# Altium footprint library OBC Development Board.PcbLib: 8 footprints
Each footprint in its own frame and in the unit in brackets; x right, y up, seen from the top. Pads: shape width x height; smd on the part's side, far side on the other; paste and mask are expansions set on the pad; w line width, h text height; cw(c..) or ccw(c..) is an arc to the next point about the centre after c.
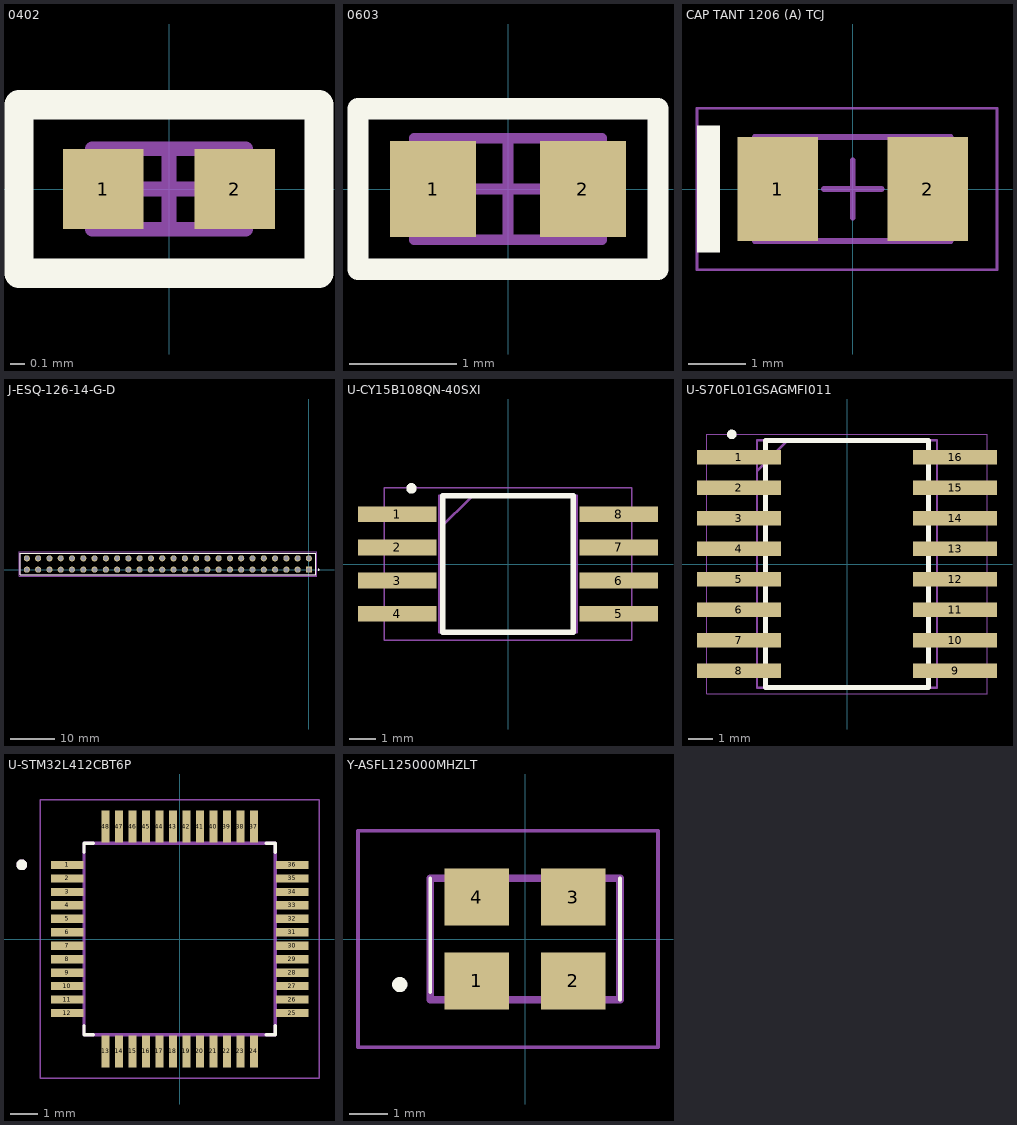
[diagram p0: the footprints below, top view; thin cyan lines are the x and y axes]

## 0402 [mm] "Chip Resistor, 2-Leads, Body 1,00x0,50mm, IPC Medium Density"
height 0.4
pads (2):
  rect 0.55x0.55 smd: 1(-0.45,0) 2(0.45,0)
Top Overlay:
  lines w0.2: -1.025,-0.575 -1.025,0.575 1.025,0.575 1.025,-0.575 -1.025,-0.575
Mechanical 13:
  lines w0.1: -0.525,-0.275 0.525,-0.275 0.525,0.275 -0.525,0.275 -0.525,-0.275
  text ".Designator" at 0,0 h1
Mechanical 15:
  lines w0.05: -1.025,-0.575 1.025,-0.575 1.025,0.575 -1.025,0.575 -1.025,-0.575
  lines w0.1: -0.275,0 0.275,0 ; 0,-0.275 0,0.275
3D body: height 0.4, standoff 0, extent 0.275,-0.275 0.525,0.275
3D body: height 0.4, standoff 0, extent -0.525,-0.275 -0.275,0.275
3D body: height 0.4, standoff 0, extent -0.275,-0.275 0.275,0.275

## 0603 [mm]
pads (2):
  rect 0.8x0.9 smd: 1(-0.7,0) 2(0.7,0)
Top Overlay:
  lines w0.2: -1.4,-0.75 -1.4,0.75 1.4,0.75 1.4,-0.75 -1.4,-0.75
Mechanical 13:
  lines w0.1: -0.875,-0.475 -0.875,0.475 0.875,0.475 0.875,-0.475 -0.875,-0.475
  text ".Designator" at 0,0 h1
Mechanical 15:
  lines w0.1: -0.475,0 0.475,0 ; 0,-0.475 0,0.475 ; -1.4,-0.75 1.4,-0.75 1.4,0.75 -1.4,0.75 -1.4,-0.75
3D body: height 1.3, standoff 0, extent -0.875,-0.475 0.875,0.475

## CAP TANT 1206 (A) TCJ [mm] "Cap Tant 2-Leads, EIA 1206, Metric 3216, Body 3.2x1.6mm"
height 1.8
pads (2):
  rect 1.4x1.8 smd: 1(-1.3,0) 2(1.3,0)
Top Overlay:
  rectangle: -2.7,-1.1 -2.3,1.1
Mechanical 13:
  lines w0.1: -1.7,-0.9 1.7,-0.9 1.7,0.9 -1.7,0.9 -1.7,-0.9
  text ".Designator" at 0,0 h1
Mechanical 15:
  lines w0.05: -2.7,-1.4 2.5,-1.4 2.5,1.4 -2.7,1.4 -2.7,-1.4
  lines w0.1: -0.5,0 0.5,0 ; 0,-0.5 0,0.5
3D body "TCJA106M016R0200E-TCJ_A-AVX-TAN.stp": height 1.72, standoff 0.01, extent -1.7,-0.84 1.7,0.84

## J-ESQ-126-14-G-D [mm]
pads (52):
  rect 1.37x1.37 hole 1.02: 01(0,0)
  round 1.37 hole 1.02: 02(0,2.54) 03(-2.54,0) 04(-2.54,2.54) 05(-5.08,0) 06(-5.08,2.54) 07(-7.62,0) 08(-7.62,2.54) 09(-10.16,0) 10(-10.16,2.54) 11(-12.7,0) 12(-12.7,2.54) 13(-15.24,0) 14(-15.24,2.54) 15(-17.78,0) 16(-17.78,2.54) 17(-20.32,0) 18(-20.32,2.54) 19(-22.86,0) 20(-22.86,2.54) 21(-25.4,0) 22(-25.4,2.54) 23(-27.94,0) 24(-27.94,2.54) 25(-30.48,0) 26(-30.48,2.54) 27(-33.02,0) 28(-33.02,2.54) 29(-35.56,0) 30(-35.56,2.54) 31(-38.1,0) 32(-38.1,2.54) 33(-40.64,0) 34(-40.64,2.54) 35(-43.18,0) 36(-43.18,2.54) 37(-45.72,0) 38(-45.72,2.54) 39(-48.26,0) 40(-48.26,2.54) 41(-50.8,0) 42(-50.8,2.54) 43(-53.34,0) 44(-53.34,2.54) 45(-55.88,0) 46(-55.88,2.54) 47(-58.42,0) 48(-58.42,2.54) 49(-60.96,0) 50(-60.96,2.54) 51(-63.5,0) 52(-63.5,2.54)
Top Overlay:
  circle w0.2: c2.175,0 r0.1
  lines w0.2: -65.025,-1.205 -65.025,3.745 1.525,3.745 1.525,-1.205 -65.025,-1.205
Mechanical 13:
  circle w0.2: c2.175,0 r0.1
  lines w0.1: -65.025,-1.205 -65.025,3.745 ; -65.025,-1.205 1.525,-1.205 ; -65.025,-1.205 -65.025,3.745 ; -65.025,3.745 1.525,3.745 ; -65.025,3.745 1.525,3.745 ; 1.525,-1.205 1.525,3.745 ; 1.525,-1.205 1.525,3.745
Mechanical 15:
  lines w0.05: -65.275,-1.455 -65.275,3.995 1.775,3.995 1.775,-1.455 -65.275,-1.455
3D body "ESQ-126-14-G-D.stp": height 11.1, standoff -12.14, extent -65.024,-1.27 1.524,3.81

## U-CY15B108QN-40SXI [mm]
pads (8):
  rect 3x0.6 smd: 1(-4.25,1.905) 2(-4.25,0.635) 3(-4.25,-0.635) 4(-4.25,-1.905) 5(4.25,-1.905) 6(4.25,-0.635) 7(4.25,0.635) 8(4.25,1.905)
Top Overlay:
  circle w0.2: c-3.7,2.9 r0.1
  lines w0.2: -2.5,-2.615 -2.5,2.615 2.5,2.615 2.5,-2.615 -2.5,-2.615
Mechanical 13:
  lines w0.1: -2.64,1.345 -1.37,2.615 ; -2.64,-2.615 -2.64,2.615 2.64,2.615 2.64,-2.615 -2.64,-2.615
Mechanical 15:
  lines w0.05: -4.75,-2.915 -4.75,2.915 4.75,2.915 4.75,-2.915 -4.75,-2.915
3D body "CY15B108QN-40SXI.stp": height 2.03, standoff 0, extent -4.002,-2.615 4.002,2.615

## U-S70FL01GSAGMFI011 [mm]
pads (16):
  rect 3.5x0.6 smd: 1(-4.5,4.445) 2(-4.5,3.175) 3(-4.5,1.905) 4(-4.5,0.635) 5(-4.5,-0.635) 6(-4.5,-1.905) 7(-4.5,-3.175) 8(-4.5,-4.445) 9(4.5,-4.445) 10(4.5,-3.175) 11(4.5,-1.905) 12(4.5,-0.635) 13(4.5,0.635) 14(4.5,1.905) 15(4.5,3.175) 16(4.5,4.445)
Top Overlay:
  circle w0.2: c-4.8,5.4 r0.1
  lines w0.2: -3.4,-5.15 3.4,-5.15 3.4,5.15 -3.4,5.15 -3.4,-5.15
Mechanical 13:
  lines w0.1: -3.75,3.88 -2.48,5.15 ; -3.75,-5.15 3.75,-5.15 3.75,5.15 -3.75,5.15 -3.75,-5.15
Mechanical 15:
  lines w0.05: -5.85,-5.4 5.85,-5.4 5.85,5.4 -5.85,5.4 -5.85,-5.4
3D body "S70FL01GSAGMFI011.stp": height 2.65, standoff 0, extent -5.15,-5.15 5.15,5.15

## U-STM32L412CBT6P [mm]
pads (48):
  rrect0% 1.2x0.3 smd: 1(-4.17,2.75) 2(-4.17,2.25) 3(-4.17,1.75) 4(-4.17,1.25) 5(-4.17,0.75) 6(-4.17,0.25) 7(-4.17,-0.25) 8(-4.17,-0.75) 9(-4.17,-1.25) 10(-4.17,-1.75) 11(-4.17,-2.25) 12(-4.17,-2.75) 25(4.17,-2.75) 26(4.17,-2.25) 27(4.17,-1.75) 28(4.17,-1.25) 29(4.17,-0.75) 30(4.17,-0.25) 31(4.17,0.25) 32(4.17,0.75) 33(4.17,1.25) 34(4.17,1.75) 35(4.17,2.25) 36(4.17,2.75)
  rrect0% 0.3x1.2 smd: 13(-2.75,-4.17) 14(-2.25,-4.17) 15(-1.75,-4.17) 16(-1.25,-4.17) 17(-0.75,-4.17) 18(-0.25,-4.17) 19(0.25,-4.17) 20(0.75,-4.17) 21(1.25,-4.17) 22(1.75,-4.17) 23(2.25,-4.17) 24(2.75,-4.17) 37(2.75,4.17) 38(2.25,4.17) 39(1.75,4.17) 40(1.25,4.17) 41(0.75,4.17) 42(0.25,4.17) 43(-0.25,4.17) 44(-0.75,4.17) 45(-1.25,4.17) 46(-1.75,4.17) 47(-2.25,4.17) 48(-2.75,4.17)
Top Overlay:
  circle w0.2: c-5.86,2.75 r0.1
  lines w0.127: -3.55,-3.21 -3.55,-3.55 -3.21,-3.55 ; -3.55,3.21 -3.55,3.55 -3.21,3.55 ; 3.21,-3.55 3.55,-3.55 3.55,-3.21 ; 3.21,3.55 3.55,3.55 3.55,3.21
Mechanical 13:
  circle w0.2: c-5.86,2.75 r0.1
  lines w0.127: -3.55,-3.55 -3.55,3.55 3.55,3.55 3.55,-3.55 -3.55,-3.55
Mechanical 15:
  lines w0.05: -5.165,-5.165 -5.165,5.165 5.165,5.165 5.165,-5.165 -5.165,-5.165
3D body "STM32L412CBT6P.STEP": height 1.59, standoff -0.01, extent -4.5,-4.5 4.5,4.5

## Y-ASFL125000MHZLT [mm]
pads (4):
  rect 1.7x1.5 smd: 1(-1.27,-1.1) 2(1.27,-1.1) 3(1.27,1.1) 4(-1.27,1.1)
Top Overlay:
  lines w0.1: -2.5,-1.4 -2.5,1.6 ; 2.5,-1.6 2.5,1.6
  lines w0.2: -3.4,-1.2 cw(c-3.3,-1.2) -3.2,-1.2 cw(c-3.3,-1.2) -3.4,-1.2
Mechanical 13:
  lines w0.2: -2.5,-1.6 -2.5,1.6 2.5,1.6 2.5,-1.6 -2.5,-1.6
Mechanical 15:
  lines w0.1: -4.4,-2.85 -4.4,2.85 3.5,2.85 3.5,-2.85 -4.4,-2.85
3D body "ASFL1-25.000MHZ-L-T.stp": height 1.4, standoff 0, extent -2.5,-1.7 2.5,1.7